# EAGLE library part WE-FB_LT35XX/LT3748_EFD20 (library Wurth_Elektronik_EMC_COMPONENTS_rev16c)
WE-FB Flyback Transformer LT35xx / LT3748 Characteristics Standard transformers for various output voltages currents available Easy design of custom power supply due to standard circuit and change of transformers and two components for feedback loop Isolation voltage up to 2.5 kV Applications Isolated power design Sensor interfaces Isolated telecom converters Power over Ethernet <http://katalog.we-online.de/media/images/eisos/UtFB_LT_MID_pf2.jpg> Details see: http://katalog.we-online.de/en/pbs/WE-FB_Linear? Updated 2015-04-03 2015 (C) Wurth Elektronik
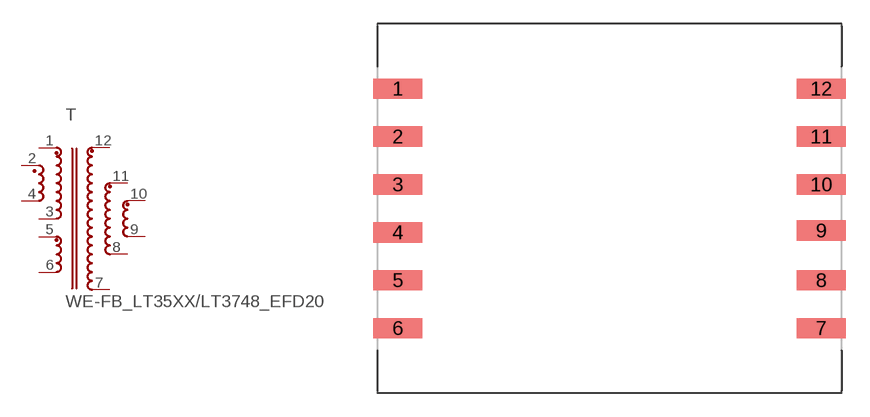
[diagram p94: symbol with the pads of WE-FB_EFD20; footprint WE-FB_EFD20]

Designator prefix T

## WE-FB_LT35XX/LT3748_EFD20_750310617, WE-FB_LT35XX/LT3748_EFD20_750311385, WE-FB_LT35XX/LT3748_EFD20_750311597, WE-FB_LT35XX/LT3748_EFD20_750311598, WE-FB_LT35XX/LT3748_EFD20_750311605, WE-FB_LT35XX/LT3748_EFD20_750311607, WE-FB_LT35XX/LT3748_EFD20_750311797  [WE-FB_EFD20]
1  2  pas
2  1  pas
3  11  pas
4  12  pas
5  10  pas
6  9  pas
7  8  pas
8  7  pas
9  6  pas
10  5  pas
11  4  pas
12  3  pas

## Footprint WE-FB_EFD20 (pad centres in mm)
smd 3.05 x 1.27: 1 -13.26,7.5; 2 -13.26,4.5; 3 -13.26,1.5; 4 -13.26,-1.5; 5 -13.26,-4.5; 6 -13.26,-7.5; 7 13.26,-7.5; 8 13.26,-4.5; 9 13.26,-1.39; 10 13.26,1.5; 11 13.26,4.5; 12 13.26,7.5